# Altium footprint library njr-packages.PcbLib: 2 footprints
Each footprint in its own frame and in the unit in brackets; x right, y up, seen from the top. Pads: shape width x height; smd on the part's side, far side on the other; paste and mask are expansions set on the pad; w line width, h text height; cw(c..) or ccw(c..) is an arc to the next point about the centre after c.
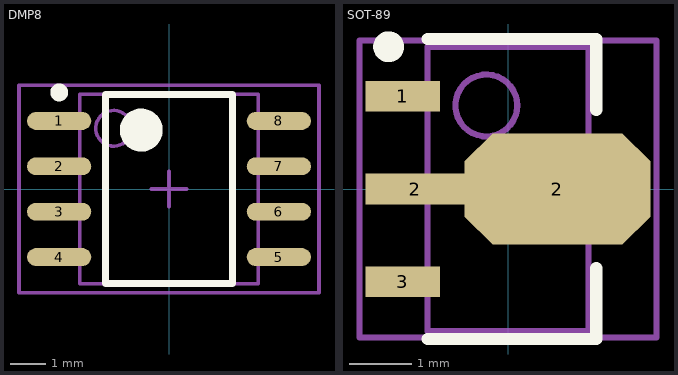
[diagram p0: the footprints below, top view; thin cyan lines are the x and y axes]

## DMP8 [mm] "SOIC, 8-Leads, Body 5.3x5.0mm (max), Pitch 1.27mm, IPC Medium Density"
height 1.6
pads (8):
  oval 1.8x0.5 smd: 1(-3.075,1.905) 2(-3.075,0.635) 3(-3.075,-0.635) 4(-3.075,-1.905) 5(3.075,-1.905) 6(3.075,-0.635) 7(3.075,0.635) 8(3.075,1.905)
Top Overlay:
  circle w0.25: c-3.075,2.705 r0.125
  circle w0.6: c-0.775,1.65 r0.3
  lines w0.2: -1.775,-2.65 -1.775,2.65 1.775,2.65 1.775,-2.65 -1.775,-2.65
Mechanical 13:
  circle w0.1: c-1.55,1.7 r0.5
  lines w0.1: -0.5,0 0.5,0 ; 0,-0.5 0,0.5 ; -2.5,-2.65 -2.5,2.65 2.5,2.65 2.5,-2.65 -2.5,-2.65
Mechanical 15:
  lines w0.1: -4.2,-2.9 -4.2,2.9 4.2,2.9 4.2,-2.9 -4.2,-2.9
  text ".Designator" at 1.225,-2.175 h0.5
3D body: height 1.6, standoff 0.15, extent -2.5,-2.65 2.5,2.65

## SOT-89 [mm] "SOT89, 3-Leads, Body 4.5x2.4mm (max), Pitch 1.50mm, Lead Span 4.1mm, IPC High Density"
height 1.6
pads (4):
  rect 1.2x0.5 smd: 1(-1.7,1.5) 3(-1.7,-1.5)
  rect 1.6x0.5 smd: 2(-1.5,0)
  oct 3x1.8 smd: 2(0.8,0)
Top Overlay:
  circle w0.25: c-1.93,2.3 r0.125
  lines w0.2: -1.3,-2.425 1.425,-2.425 1.425,-1.28 ; -1.3,2.425 1.425,2.425 1.425,1.28
Mechanical 13:
  circle w0.1: c-0.35,1.35 r0.5
  lines w0.1: -0.5,0 0.5,0 ; 0,-0.5 0,0.5 ; -1.3,-2.3 1.3,-2.3 1.3,2.3 -1.3,2.3 -1.3,-2.3
Mechanical 15:
  lines w0.1: -2.4,-2.4 2.4,-2.4 2.4,2.4 -2.4,2.4 -2.4,-2.4
  text ".Designator" at -0.9,-1.825 h0.5
3D body: height 1.5, standoff 0, extent -2,-2.25 2,2.25